# Altium schematic symbol library TC1222.Schlib: 1 symbol
Pins are listed as number, name and electrical type; pins without a type are passive.

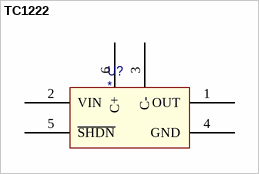
[diagram p0: symbol TC1222]

## TC1222
designator U?
pins: 1 OUT, 2 VIN, 3 C-, 4 GND, 5 ~{SHDN}, 6 C+